# EAGLE library part 171053601 (library WPME-VDLM)
MagI³C-VDLM Variable Step Down LGA Module Characteristics Low conducted and radiated EMI (compliant to EN55022 class B / CISPR-22) LGA-12EP For direct connection to 24 V industrial voltage network Low profile LGA-package Ideal for space constrained applications 2 solder cycles supported LGA-16EP Low profile LGA-package Stand alone solution (CIN and COUT integrated, 2 external components to set VOUT) Ideal for space constrained applications 2 solder cycles supported LGA-26 For direct connection to 24 V industrial voltage network Sync function for custom switching frequencies Low profile LGA-package Ideal for space constrained applications 2 solder cycles supported Applications Point-of-Load DC-DC applications from 18V, 15V, 12V, 9V, 5V industrial rails Test and measurement equipment Medical equipment Interface supply Supply of microcontrollers, microprocessors, DSPs, FPGAs Industrial electronics Telecommunications <https://www.we-online.com/components/media/o683498v209%20Family_Magic-VDLM_171013801_171011801.jpg> Details see: www.we-online.com/en/components/products/MAGIC-VDLM <www.we-online.com/catalog/MAGIC-VDLM/?utm_source=eagle_model&utm_medium=description_link&utm_campaign=eisos_eagle> Created by Ella Wu 2025-07-30 2025(C) Würth Elektronik
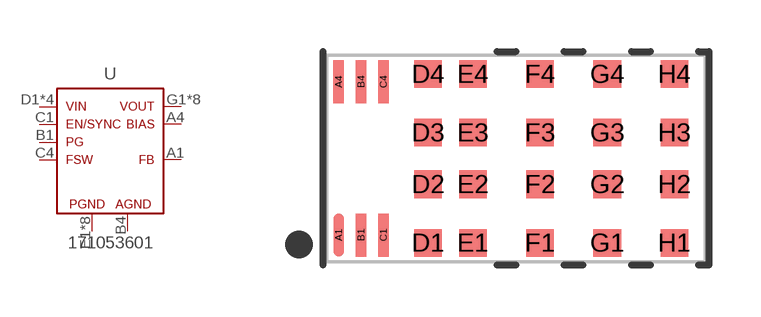
[diagram p7: symbol with the pads of WPME-VDLM_LGA-26; footprint WPME-VDLM_LGA-26]

Designator prefix U

## 171053601 (DATASHEET-URL: https://www.we-online.com/redexpert/spec/171053601?ae; HEIGHT: 3mm; I-OUTPUT: 5A; LENGTH: 11mm; MOUNT: SMT; PART-NUMBER: 171053601; SIZE: LGA-26; V-INPUT: 4 - 36Vin; V-OUTPUT: 1 - 6Vout; VALUE: 4 - 36Vin, 1 - 6Vout, 5A; WIDTH: 6mm)  [WPME-VDLM_LGA-26]
A1  FB  in
A4  BIAS  in
B1  PG  out
B4  AGND  pwr
C1  EN/SYNC  in
C4  FSW  in
D1  VIN  pwr
D2  VIN  pwr
D3  VIN  pwr
D4  VIN  pwr
E1  PGND  pwr
E2  PGND  pwr
E3  PGND  pwr
E4  PGND  pwr
F1  PGND  pwr
F2  PGND  pwr
F3  PGND  pwr
F4  PGND  pwr
G1  VOUT  pwr
G2  VOUT  pwr
G3  VOUT  pwr
G4  VOUT  pwr
H1  VOUT  pwr
H2  VOUT  pwr
H3  VOUT  pwr
H4  VOUT  pwr

## Footprint WPME-VDLM_LGA-26 (pad centres in mm)
MagI³C-VDLM Variable Step Down LGA Module Size : LGA-26, SMT LxWxH=10mm x 6mm x 3.1mm
smd 0.3 x 1.25: A1 -5.15,-2.225; A4 -5.15,2.225; B1 -4.5,-2.225; B4 -4.5,2.225; C1 -3.85,-2.225; C4 -3.85,2.225
smd 0.8 x 0.8: D1 -2.55,-2.45; D2 -2.55,-0.75; D3 -2.55,0.75; D4 -2.55,2.45; E1 -1.25,-2.45; E2 -1.25,-0.75; E3 -1.25,0.75; E4 -1.25,2.45; F1 0.7,-2.45; F2 0.7,-0.75; F3 0.7,0.75; F4 0.7,2.45; G1 2.65,-2.45; G2 2.65,-0.75; G3 2.65,0.75; G4 2.65,2.45; H1 4.6,-2.45; H2 4.6,-0.75; H3 4.6,0.75; H4 4.6,2.45